# EAGLE library part BQ50002ARHBR (library BQ50002ARHBR)
Check availability <https://pricing.snapeda.com/parts/BQ50002ARHBR/Texas%20Instruments/view-part?ref=eda>
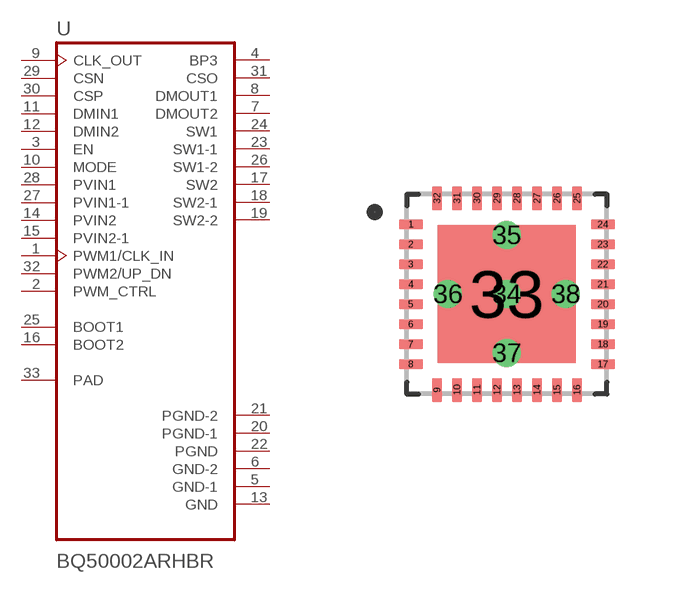
[diagram p0: symbol with the pads of IC_ADS125H01IRHBT; footprint IC_ADS125H01IRHBT]

Designator prefix U

## BQ50002ARHBR (Availability: In Stock; Description: Low-Cost 5-V Wireless Power Transmitter AFE WPC V 1.2 A11 Transmitter 32-VQFN -40 to 125; MF: Texas Instruments; MP: BQ50002ARHBR; Package: VQFN-32 Texas Instruments; Price: None; Purchase-URL: https://pricing.snapeda.com/search/part/BQ50002ARHBR/?ref=eda)  [IC_ADS125H01IRHBT]
1  PWM1/CLK_IN  in
2  PWM_CTRL  in
3  EN  in
4  BP3  out
5  GND-1  pwr
6  GND-2  pwr
7  DMOUT2  out
8  DMOUT1  out
9  CLK_OUT  in
10  MODE  in
11  DMIN1  in
12  DMIN2  in
13  GND  pwr
14  PVIN2  in
15  PVIN2-1  in
16  BOOT2
17  SW2  out
18  SW2-1  out
19  SW2-2  out
20  PGND-1  pwr
21  PGND-2  pwr
22  PGND  pwr
23  SW1-1  out
24  SW1  out
25  BOOT1
26  SW1-2  out
27  PVIN1-1  in
28  PVIN1  in
29  CSN  in
30  CSP  in
31  CSO  out
32  PWM2/UP_DN  in
33  PAD

## Footprint IC_ADS125H01IRHBT (pad centres in mm)
smd 0.6 x 0.25: 1 -2.4,1.75; 2 -2.4,1.25; 3 -2.4,0.75; 4 -2.4,0.25; 5 -2.4,-0.25; 6 -2.4,-0.75; 7 -2.4,-1.25; 8 -2.4,-1.75; 17 2.4,-1.75; 18 2.4,-1.25; 19 2.4,-0.75; 20 2.4,-0.25; 21 2.4,0.25; 22 2.4,0.75; 23 2.4,1.25; 24 2.4,1.75
smd 0.25 x 0.6: 9 -1.75,-2.4; 10 -1.25,-2.4; 11 -0.75,-2.4; 12 -0.25,-2.4; 13 0.25,-2.4; 14 0.75,-2.4; 15 1.25,-2.4; 16 1.75,-2.4; 25 1.75,2.4; 26 1.25,2.4; 27 0.75,2.4; 28 0.25,2.4; 29 -0.25,2.4; 30 -0.75,2.4; 31 -1.25,2.4; 32 -1.75,2.4
smd 3.45 x 3.45: 33 0,0
drill 0.2 pad 0.4: 34 0,0; 35 0,1.475; 36 -1.475,0; 37 0,-1.475; 38 1.475,0